# EAGLE library part 465M111172501 (library Wurth_Switch_WS-PBTL)
WS-PBTL THT RGB Illuminated Push Button Switch 15 x 15 mm PROPERTIES: Actuator Flammability Rating:UL94 HB Actuator Color:White Actuator Fixture Material:PA66 Actuator Fixture Color:Black Frame Material:PA66 Frame Flammability Rating:UL94 HB Frame Color:Black Stationary Board:PA66 Stationary Board Flammability Rating:UL94 HB Stationary Board Color:Black Stationary Contact:Copper Alloy Stationary Contact Plating:Gold Moveable Contact Material:Copper Alloy Moveable Contact Plating:Gold Spring Material:Carbon Steel Terminal Material:Copper Alloy Terminal Plating:Tin LED Terminal:Copper Alloy LED Terminal Plating:Tin IR 1:100 mA Contact Resistance After Life Test:300 mΩ RISO:100 MΩ Withstanding Voltage:500 V (AC) Function of Push Button:momentary Actuation Feedback:non-tactile Schematic:SPST Qty.:64 Material Properties: Actuator Material:POM Mechanical Properties: Operation Force 200 g General Information: Operating Temperature:-40 up to +85 °C Packaging Properties: Packaging:ESD Tray Ledcolor: Emitting Color:Red & Green & Blue <https://www.we-online.com/catalog/media/o55791v209%20WS-PBTL_Illuminated_THT_Push.jpg> Details see: https://www.we-online.com/catalog/en/RGB_PUSH_BUTTON_SWITCH_THT/ Updated by Yingchun Shan,2020-02-26 2020(C) Wurth Elektronik
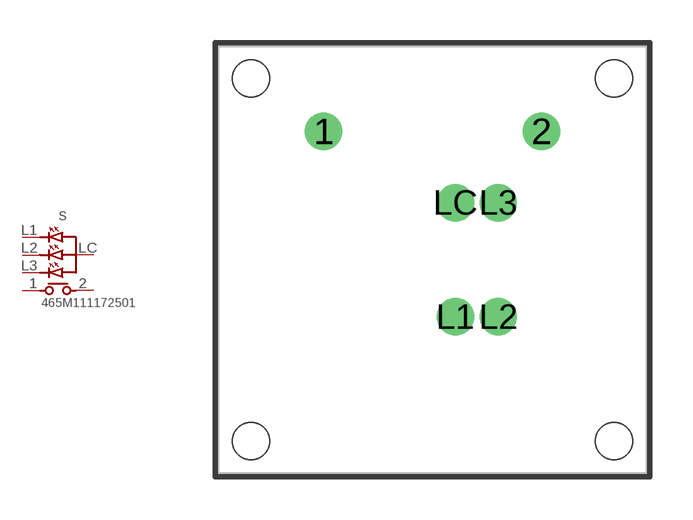
[diagram p0: symbol with the pads of 465M111172501; footprint 465M111172501]

Designator prefix S

## 465M111172501 (DATASHEET-URL: https://www.we-online.com/catalog/datasheet/465M111172501.pdf; ELECTRICAL-LIFE: 1000000 times; EMITTING-COLOR: Red&Green&Blue; PART-NUMBER: 465M111172501)  [465M111172501]
1  1  pas
2  2  pas
L1  L1  pas
L2  L2  pas
L3  L3  pas
LC  LC  pas

## Footprint 465M111172501 (pad centres in mm)
WS-PBTL THT RGB Illuminated Push Button Switch 15 x 15 mm
drill 0.8: 1 -3.81,4.5; 2 3.81,4.5; L1 0.8,-2; L2 2.3,-2; L3 2.3,2; LC 0.8,2
hole 1.3 at -6.35,6.35
hole 1.3 at 6.35,6.35
hole 1.3 at 6.35,-6.35
hole 1.3 at -6.35,-6.35